# Altium footprint library WR-WTB.PcbLib: 259 footprints (part 6 of 17)
Each footprint in its own frame and in the unit in brackets; x right, y up, seen from the top. Pads: shape width x height; smd on the part's side, far side on the other; paste and mask are expansions set on the pad; w line width, h text height; cw(c..) or ccw(c..) is an arc to the next point about the centre after c.
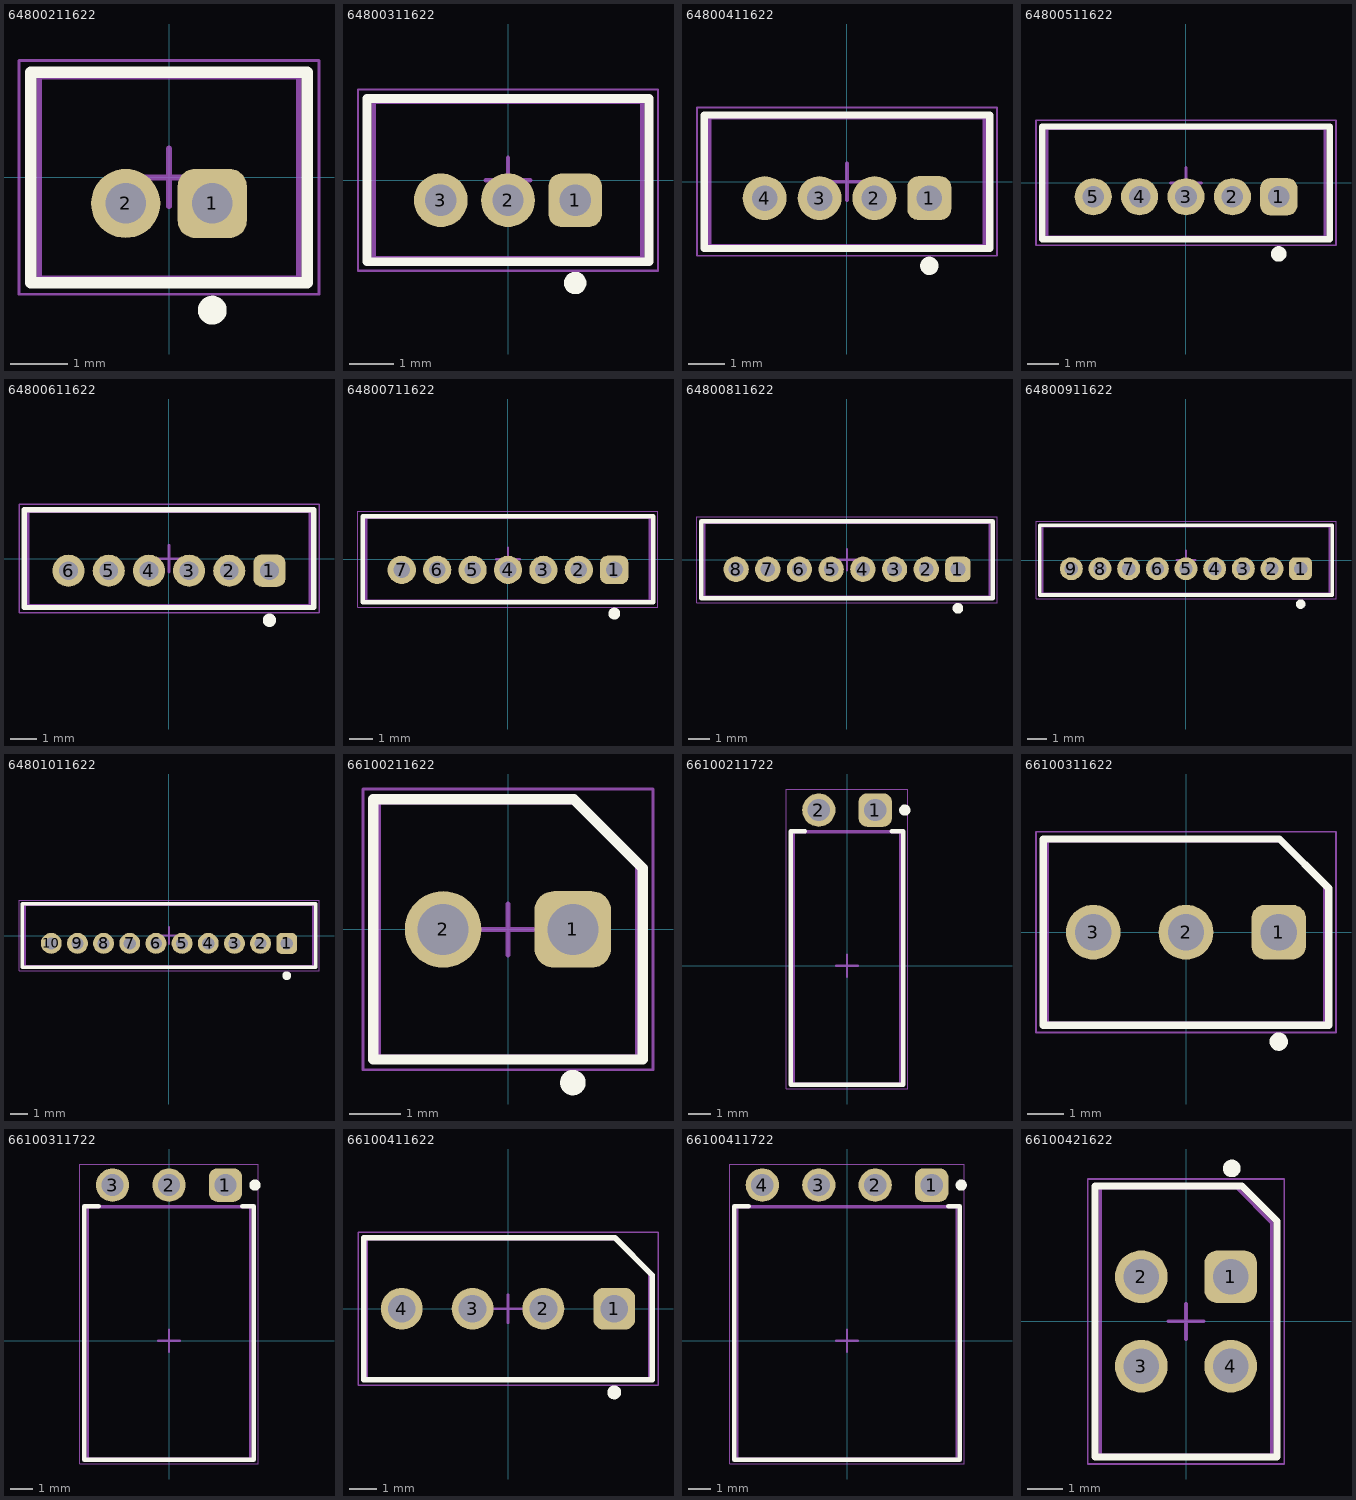
[diagram p5: the footprints below, top view; thin cyan lines are the x and y axes]

## 64800211622 [mm] "1.50mm Male Vertical Shrouded Header, 2p"
height 4.5
pads (2):
  rrect50% 1.2x1.2 hole 0.7: 1(0.75,-0.45)
  round 1.2 hole 0.7: 2(-0.75,-0.45)
Top Overlay:
  circle w0.25: c0.75,-2.3 r0.125
  lines w0.2: -2.4,-1.825 2.4,-1.825 2.4,1.825 -2.4,1.825 -2.4,-1.825
Top Assembly:
  lines w0.1: -2.25,-1.75 -2.25,1.75 2.25,1.75 2.25,-1.75 -2.25,-1.75
Top Designator:
  text ".Designator" at -3.647,-0.357 h1
Top Courtyard:
  lines w0.05: -2.6,-2.025 -2.6,2.025 2.6,2.025 2.6,-2.025 -2.6,-2.025
Top Component Center:
  lines w0.1: -0.5,0 0.5,0 ; 0,-0.5 0,0.5
3D body "64800211622.stp": height 4.53, standoff -2.37, extent -2.25,-1.75 2.25,1.75

## 64800311622 [mm] "1.50mm Male Vertical Shrouded Header, 3p"
height 4.5
pads (3):
  rrect50% 1.2x1.2 hole 0.7: 1(1.5,-0.45)
  round 1.2 hole 0.7: 2(0,-0.45) 3(-1.5,-0.45)
Top Overlay:
  circle w0.25: c1.5,-2.3 r0.125
  lines w0.2: -3.15,-1.825 3.15,-1.825 3.15,1.825 -3.15,1.825 -3.15,-1.825
Top Assembly:
  lines w0.1: -3,-1.75 -3,1.75 3,1.75 3,-1.75 -3,-1.75
Top Designator:
  text ".Designator" at -3.647,-0.357 h1
Top Courtyard:
  lines w0.05: -3.35,-2.025 -3.35,2.025 3.35,2.025 3.35,-2.025 -3.35,-2.025
Top Component Center:
  lines w0.1: -0.5,0 0.5,0 ; 0,-0.5 0,0.5
3D body "64800311622.stp": height 4.53, standoff -2.37, extent -3,-1.75 3,1.75

## 64800411622 [mm] "1.50mm Male Vertical Shrouded Header, 4p"
height 4.5
pads (4):
  rrect50% 1.2x1.2 hole 0.7: 1(2.25,-0.45)
  round 1.2 hole 0.7: 2(0.75,-0.45) 3(-0.75,-0.45) 4(-2.25,-0.45)
Top Overlay:
  circle w0.25: c2.25,-2.3 r0.125
  lines w0.2: -3.9,-1.825 -3.9,1.825 3.9,1.825 3.9,-1.825 -3.9,-1.825
Top Assembly:
  lines w0.1: -3.75,-1.75 3.75,-1.75 3.75,1.75 -3.75,1.75 -3.75,-1.75
Top Designator:
  text ".Designator" at -3.647,-0.357 h1
Top Courtyard:
  lines w0.05: -4.1,-2.025 4.1,-2.025 4.1,2.025 -4.1,2.025 -4.1,-2.025
Top Component Center:
  lines w0.1: -0.5,0 0.5,0 ; 0,-0.5 0,0.5
3D body "64800411622.stp": height 4.53, standoff -2.37, extent -3.75,-1.75 3.75,1.75

## 64800511622 [mm] "1.50mm Male Vertical Shrouded Header, 5p"
height 4.5
pads (5):
  rrect50% 1.2x1.2 hole 0.7: 1(3,-0.45)
  round 1.2 hole 0.7: 2(1.5,-0.45) 3(0,-0.45) 4(-1.5,-0.45) 5(-3,-0.45)
Top Overlay:
  circle w0.25: c3,-2.3 r0.125
  lines w0.2: -4.65,-1.825 -4.65,1.825 4.65,1.825 4.65,-1.825 -4.65,-1.825
Top Assembly:
  lines w0.1: -4.5,-1.75 4.5,-1.75 4.5,1.75 -4.5,1.75 -4.5,-1.75
Top Designator:
  text ".Designator" at -3.647,-0.357 h1
Top Courtyard:
  lines w0.05: -4.85,-2.025 4.85,-2.025 4.85,2.025 -4.85,2.025 -4.85,-2.025
Top Component Center:
  lines w0.1: -0.5,0 0.5,0 ; 0,-0.5 0,0.5
3D body "64800511622.stp": height 4.53, standoff -2.67, extent -4.5,-1.75 4.5,1.75

## 64800611622 [mm] "1.50mm Male Vertical Shrouded Header, 6p"
height 4.5
pads (6):
  rrect50% 1.2x1.2 hole 0.7: 1(3.75,-0.45)
  round 1.2 hole 0.7: 2(2.25,-0.45) 3(0.75,-0.45) 4(-0.75,-0.45) 5(-2.25,-0.45) 6(-3.75,-0.45)
Top Overlay:
  circle w0.25: c3.75,-2.3 r0.125
  lines w0.2: -5.4,-1.825 5.4,-1.825 5.4,1.825 -5.4,1.825 -5.4,-1.825
Top Assembly:
  lines w0.1: -5.25,-1.75 -5.25,1.75 5.25,1.75 5.25,-1.75 -5.25,-1.75
Top Designator:
  text ".Designator" at -3.647,-0.357 h1
Top Courtyard:
  lines w0.05: -5.6,-2.025 -5.6,2.025 5.6,2.025 5.6,-2.025 -5.6,-2.025
Top Component Center:
  lines w0.1: -0.5,0 0.5,0 ; 0,-0.5 0,0.5
3D body "64800611622.stp": height 4.53, standoff -2.67, extent -5.25,-1.75 5.25,1.75

## 64800711622 [mm] "1.50mm Male Vertical Shrouded Header, 7p"
height 4.5
pads (7):
  rrect50% 1.2x1.2 hole 0.7: 1(4.5,-0.45)
  round 1.2 hole 0.7: 2(3,-0.45) 3(1.5,-0.45) 4(0,-0.45) 5(-1.5,-0.45) 6(-3,-0.45) 7(-4.5,-0.45)
Top Overlay:
  circle w0.25: c4.5,-2.3 r0.125
  lines w0.2: -6.15,-1.825 -6.15,1.825 6.15,1.825 6.15,-1.825 -6.15,-1.825
Top Assembly:
  lines w0.1: -6,-1.75 6,-1.75 6,1.75 -6,1.75 -6,-1.75
Top Designator:
  text ".Designator" at -3.647,-0.357 h1
Top Courtyard:
  lines w0.05: -6.35,-2.025 6.35,-2.025 6.35,2.025 -6.35,2.025 -6.35,-2.025
Top Component Center:
  lines w0.1: -0.5,0 0.5,0 ; 0,-0.5 0,0.5
3D body "64800711622.stp": height 4.53, standoff -2.67, extent -6,-1.75 6,1.75

## 64800811622 [mm] "1.50mm Male Vertical Shrouded Header, 8p"
height 4.5
pads (8):
  rrect50% 1.2x1.2 hole 0.7: 1(5.25,-0.45)
  round 1.2 hole 0.7: 2(3.75,-0.45) 3(2.25,-0.45) 4(0.75,-0.45) 5(-0.75,-0.45) 6(-2.25,-0.45) 7(-3.75,-0.45) 8(-5.25,-0.45)
Top Overlay:
  circle w0.25: c5.25,-2.3 r0.125
  lines w0.2: -6.9,-1.825 6.9,-1.825 6.9,1.825 -6.9,1.825 -6.9,-1.825
Top Assembly:
  lines w0.1: -6.75,-1.75 -6.75,1.75 6.75,1.75 6.75,-1.75 -6.75,-1.75
Top Designator:
  text ".Designator" at -3.647,-0.357 h1
Top Courtyard:
  lines w0.05: -7.1,-2.025 -7.1,2.025 7.1,2.025 7.1,-2.025 -7.1,-2.025
Top Component Center:
  lines w0.1: -0.5,0 0.5,0 ; 0,-0.5 0,0.5
3D body "64800811622.stp": height 4.53, standoff -2.67, extent -6.75,-1.75 6.75,1.75

## 64800911622 [mm] "1.50mm Male Vertical Shrouded Header, 9p"
height 4.5
pads (9):
  rrect50% 1.2x1.2 hole 0.7: 1(6,-0.45)
  round 1.2 hole 0.7: 2(4.5,-0.45) 3(3,-0.45) 4(1.5,-0.45) 5(0,-0.45) 6(-1.5,-0.45) 7(-3,-0.45) 8(-4.5,-0.45) 9(-6,-0.45)
Top Overlay:
  circle w0.25: c6,-2.3 r0.125
  lines w0.2: -7.65,-1.825 7.65,-1.825 7.65,1.825 -7.65,1.825 -7.65,-1.825
Top Assembly:
  lines w0.1: -7.5,-1.75 -7.5,1.75 7.5,1.75 7.5,-1.75 -7.5,-1.75
Top Designator:
  text ".Designator" at -3.647,-0.357 h1
Top Courtyard:
  lines w0.05: -7.85,-2.025 -7.85,2.025 7.85,2.025 7.85,-2.025 -7.85,-2.025
Top Component Center:
  lines w0.1: -0.5,0 0.5,0 ; 0,-0.5 0,0.5
3D body "64800911622.stp": height 4.53, standoff -2.67, extent -7.5,-1.75 7.5,1.75

## 64801011622 [mm] "1.50mm Male Vertical Shrouded Header, 10p"
height 4.5
pads (10):
  rrect50% 1.2x1.2 hole 0.7: 1(6.75,-0.45)
  round 1.2 hole 0.7: 2(5.25,-0.45) 3(3.75,-0.45) 4(2.25,-0.45) 5(0.75,-0.45) 6(-0.75,-0.45) 7(-2.25,-0.45) 8(-3.75,-0.45) 9(-5.25,-0.45) 10(-6.75,-0.45)
Top Overlay:
  circle w0.25: c6.75,-2.3 r0.125
  lines w0.2: -8.4,-1.825 -8.4,1.825 8.4,1.825 8.4,-1.825 -8.4,-1.825
Top Assembly:
  lines w0.1: -8.25,-1.75 8.25,-1.75 8.25,1.75 -8.25,1.75 -8.25,-1.75
Top Designator:
  text ".Designator" at -3.647,-0.357 h1
Top Courtyard:
  lines w0.05: -8.6,-2.025 8.6,-2.025 8.6,2.025 -8.6,2.025 -8.6,-2.025
Top Component Center:
  lines w0.1: -0.5,0 0.5,0 ; 0,-0.5 0,0.5
3D body "64801011622.stp": height 4.53, standoff -2.67, extent -8.25,-1.75 8.25,1.75

## 66100211622 [mm] "2.54 mm Intercom Male Horizontal Shrouded Header, 2p"
height 11.3
pads (2):
  rrect50% 1.5x1.5 hole 1: 1(1.27,0)
  round 1.5 hole 1: 2(-1.27,0)
Top Overlay:
  circle w0.25: c1.27,-3 r0.125
  lines w0.2: -2.64,-2.55 -2.64,2.55 1.29,2.55 2.64,1.2 2.64,-2.55 -2.64,-2.55
Top Assembly:
  lines w0.1: -2.54,-2.5 2.54,-2.5 2.54,1.3 1.34,2.5 -2.54,2.5 -2.54,-2.5
Top Designator:
  text ".Designator" at -3.647,-0.357 h1
Top Courtyard:
  lines w0.05: -2.84,-2.75 -2.84,2.75 2.84,2.75 2.84,-2.75 -2.84,-2.75
Top Component Center:
  lines w0.1: -0.5,0 0.5,0 ; 0,-0.5 0,0.5
3D body "66100211622.stp": height 11.33, standoff -2.97, extent -2.389,-2.5 2.391,2.5

## 66100211722 [mm] "2.54 mm Intercom Male Right Angled Shrouded Locking Header, 2p"
height 5
pads (2):
  rrect50% 1.5x1.5 hole 1: 1(1.27,7)
  round 1.5 hole 1: 2(-1.27,7)
Top Overlay:
  circle w0.25: c2.6,7 r0.125
  lines w0.2: -1.89,6.05 -2.54,6.05 -2.54,-5.35 2.54,-5.35 2.54,6.05 2.02,6.05
Top Assembly:
  lines w0.1: -2.54,-5.35 -2.54,6.05 2.54,6.05 2.54,-5.35 -2.54,-5.35
Top Designator:
  text ".Designator" at -3.647,-0.357 h1
Top 3D Body:
  lines w0.1: -2.39,-5.3 -2.39,6 2.39,6 2.39,-5.3 -2.39,-5.3
Top Courtyard:
  lines w0.05: -2.74,-5.55 2.74,-5.55 2.74,7.95 -2.74,7.95 -2.74,-5.55
Top Component Center:
  lines w0.1: -0.5,0 0.5,0 ; 0,-0.5 0,0.5
3D body "66100211722.stp": height 5.05, standoff -2.85, extent -2.39,-5.3 2.39,7.31

## 66100311622 [mm] "2.54 mm Intercom Male Horizontal Shrouded Header, 3p"
height 11.3
pads (3):
  rrect50% 1.5x1.5 hole 1: 1(2.54,0)
  round 1.5 hole 1: 2(0,0) 3(-2.54,0)
Top Overlay:
  circle w0.25: c2.54,-3 r0.125
  lines w0.2: -3.91,-2.55 -3.91,2.55 2.56,2.55 3.91,1.2 3.91,-2.55 -3.91,-2.55
Top Assembly:
  lines w0.1: -3.81,-2.5 3.81,-2.5 3.81,1.3 2.61,2.5 -3.81,2.5 -3.81,-2.5
Top Designator:
  text ".Designator" at -3.647,-0.357 h1
Top Courtyard:
  lines w0.05: -4.11,-2.75 -4.11,2.75 4.11,2.75 4.11,-2.75 -4.11,-2.75
Top Component Center:
  lines w0.1: -0.5,0 0.5,0 ; 0,-0.5 0,0.5
3D body "66100311622.stp": height 11.33, standoff -2.97, extent -3.66,-2.5 3.66,2.5

## 66100311722 [mm] "2.54 mm Intercom Male Right Angled Shrouded Locking Header, 3p"
height 5
pads (3):
  rrect50% 1.5x1.5 hole 1: 1(2.54,7)
  round 1.5 hole 1: 2(0,7) 3(-2.54,7)
Top Overlay:
  circle w0.25: c3.87,7 r0.125
  lines w0.2: -3.16,6.05 -3.81,6.05 -3.81,-5.35 3.81,-5.35 3.81,6.05 3.29,6.05
Top Assembly:
  lines w0.1: -3.81,-5.35 3.81,-5.35 3.81,6.05 -3.81,6.05 -3.81,-5.35
Top Designator:
  text ".Designator" at -3.647,-0.357 h1
Top 3D Body:
  lines w0.1: -3.66,-5.3 3.66,-5.3 3.66,6 -3.66,6 -3.66,-5.3
Top Courtyard:
  lines w0.05: -4.01,-5.55 -4.01,7.95 4.01,7.95 4.01,-5.55 -4.01,-5.55
Top Component Center:
  lines w0.1: -0.5,0 0.5,0 ; 0,-0.5 0,0.5
3D body "66100311722.stp": height 5.05, standoff -2.85, extent -3.66,-5.3 3.66,7.31

## 66100411622 [mm] "2.54 mm Intercom Male Horizontal Shrouded Header, 4p"
height 11.3
pads (4):
  rrect50% 1.5x1.5 hole 1: 1(3.81,0)
  round 1.5 hole 1: 2(1.27,0) 3(-1.27,0) 4(-3.81,0)
Top Overlay:
  circle w0.25: c3.81,-3 r0.125
  lines w0.2: -5.18,-2.55 -5.18,2.55 3.83,2.55 5.18,1.2 5.18,-2.55 -5.18,-2.55
Top Assembly:
  lines w0.1: -5.08,-2.5 5.08,-2.5 5.08,1.3 3.88,2.5 -5.08,2.5 -5.08,-2.5
Top Designator:
  text ".Designator" at -3.647,-0.357 h1
Top Courtyard:
  lines w0.05: -5.38,-2.75 -5.38,2.75 5.38,2.75 5.38,-2.75 -5.38,-2.75
Top Component Center:
  lines w0.1: -0.5,0 0.5,0 ; 0,-0.5 0,0.5
3D body "66100411622.stp": height 11.33, standoff -2.97, extent -4.93,-2.5 4.93,2.5

## 66100411722 [mm] "2.54 mm Intercom Male Right Angled Shrouded Locking Header, 4p"
height 5
pads (4):
  rrect50% 1.5x1.5 hole 1: 1(3.81,7)
  round 1.5 hole 1: 2(1.27,7) 3(-1.27,7) 4(-3.81,7)
Top Overlay:
  circle w0.25: c5.14,7 r0.125
  lines w0.2: -4.43,6.05 -5.08,6.05 -5.08,-5.35 5.08,-5.35 5.08,6.05 4.56,6.05
Top Assembly:
  lines w0.1: -5.08,-5.35 -5.08,6.05 5.08,6.05 5.08,-5.35 -5.08,-5.35
Top Designator:
  text ".Designator" at -3.647,-0.357 h1
Top 3D Body:
  lines w0.1: -4.93,-5.3 -4.93,6 4.93,6 4.93,-5.3 -4.93,-5.3
Top Courtyard:
  lines w0.05: -5.28,-5.55 5.28,-5.55 5.28,7.95 -5.28,7.95 -5.28,-5.55
Top Component Center:
  lines w0.1: -0.5,0 0.5,0 ; 0,-0.5 0,0.5
3D body "66100411722.stp": height 5.05, standoff -2.85, extent -4.93,-5.3 4.93,7.31

## 66100421622 [mm] "2.54mm Male Vertical Dual Row Header, 4p"
height 11.2
pads (4):
  rrect50% 1.5x1.5 hole 1: 1(1.27,1.27)
  round 1.5 hole 1: 2(-1.27,1.27) 3(-1.27,-1.27) 4(1.27,-1.27)
Top Overlay:
  circle w0.25: c1.3,4.35 r0.125
  lines w0.2: 2.59,2.8 2.59,-3.85 -2.59,-3.85 -2.59,3.85 1.59,3.85 2.59,2.85
Top Assembly:
  lines w0.1: -2.44,-3.8 -2.44,3.8 1.44,3.8 2.44,2.8 2.44,-3.8 -2.44,-3.8
Top Designator:
  text ".Designator" at -3.647,-0.357 h1
Top Courtyard:
  lines w0.05: -2.79,-4.05 -2.79,4.05 2.79,4.05 2.79,-4.05 -2.79,-4.05
Top Component Center:
  lines w0.1: -0.5,0 0.5,0 ; 0,-0.5 0,0.5
3D body "66100421622.stp": height 11.22, standoff -2.88, extent -2.44,-3.8 2.44,3.8